# Altium footprint library HDMI_0467652001.PcbLib: 1 footprints
Each footprint in its own frame and in the unit in brackets; x right, y up, seen from the top. Pads: shape width x height; smd on the part's side, far side on the other; paste and mask are expansions set on the pad; w line width, h text height; cw(c..) or ccw(c..) is an arc to the next point about the centre after c.
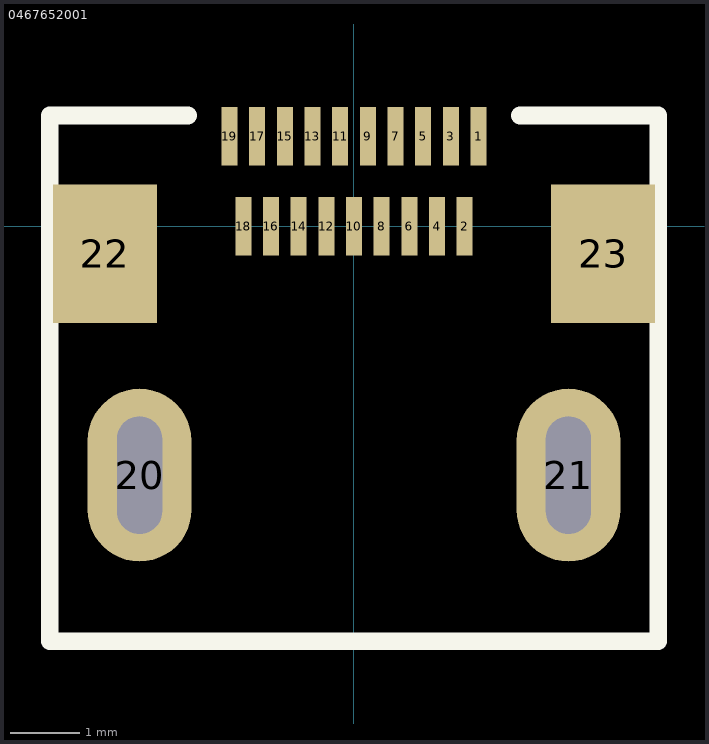
[diagram p0: the footprint, top view; thin cyan lines are the x and y axes]

## 0467652001 [mm]
pads (23):
  rect 0.23x0.85 smd: 1(1.8,1.3) 2(1.6,0) 3(1.4,1.3) 4(1.2,0) 5(1,1.3) 6(0.8,0) 7(0.6,1.3) 8(0.4,0) 9(0.2,1.3) 10(0,0) 11(-0.2,1.3) 12(-0.4,0) 13(-0.6,1.3) 14(-0.8,0) 15(-1,1.3) 16(-1.2,0) 17(-1.4,1.3) 18(-1.6,0) 19(-1.8,1.3)
  oval 1.5x2.5 hole 0.65 slot 1.7 at 90 deg: 20(-3.1,-3.6) 21(3.1,-3.6)
  rect 1.5x2 smd: 22(-3.6,-0.4) 23(3.6,-0.4)
Top Overlay:
  lines w0.254: -2.4,1.6 -4.4,1.6 -4.4,-6 4.4,-6 4.4,1.6 2.4,1.6
3D body: height 2.92, standoff -0.6, extent -4.45,-6 4.45,1.5